# Altium footprint library PcbLib1.PcbLib: 4 footprints
Each footprint in its own frame and in the unit in brackets; x right, y up, seen from the top. Pads: shape width x height; smd on the part's side, far side on the other; paste and mask are expansions set on the pad; w line width, h text height; cw(c..) or ccw(c..) is an arc to the next point about the centre after c.
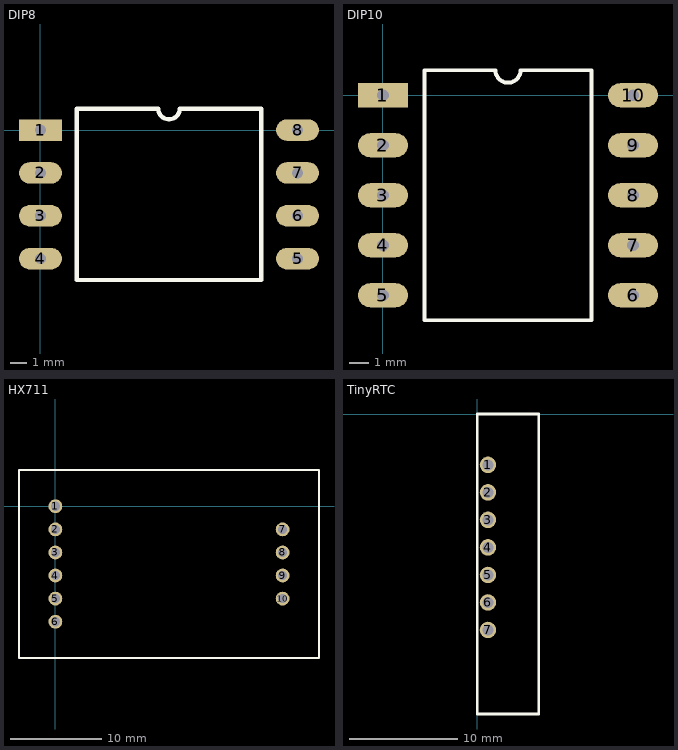
[diagram p0: the footprints below, top view; thin cyan lines are the x and y axes]

## DIP8 [mil]
pads (8):
  rect 100x50 hole 25: 1(0,0)
  oval 100x50 hole 25: 2(0,-100) 3(0,-200) 4(0,-300) 5(600,-300) 6(600,-200) 7(600,-100) 8(600,0)
Top Overlay:
  lines w10: 85,-350 515,-350 515,50 325,50 cw(c300,50) 275,50 85,50 85,-350

## DIP10 [mm]
pads (10):
  rect 2.5x1.2 hole 0.6: 1(0,0)
  oval 2.5x1.2 hole 0.6: 2(0,-2.5) 3(0,-5) 4(0,-7.5) 5(0,-10) 6(12.5,-10) 7(12.5,-7.5) 8(12.5,-5) 9(12.5,-2.5) 10(12.5,0)
Top Overlay:
  lines w0.2: 2.085,-11.25 2.085,1.25 5.625,1.25 ccw(c6.25,1.25) 6.875,1.25 10.415,1.25 10.415,-11.25 2.085,-11.25

## HX711 [mil]
pads (10):
  round 60 hole 39.37: 1(0,0) 2(0,-100) 3(0,-200) 4(0,-300) 5(0,-400) 6(0,-500) 7(984.25,-100) 8(984.25,-200) 9(984.25,-300) 10(984.25,-400)
Top Overlay:
  lines w10: -157.48,-657.48 -157.48,157.48 1141.73,157.48 1141.73,-657.48 -157.48,-657.48

## TinyRTC [mm]
pads (7):
  round 1.524 hole 1: 1(1,-4.7) 2(1,-7.24) 3(1,-9.78) 4(1,-12.32) 5(1,-14.86) 6(1,-17.4) 7(1,-19.94)
Top Overlay:
  lines w0.254: 0,-27.7 5.7,-27.7 5.7,0 0,0 0,-27.7